# Altium schematic symbol library WE-RCIT.SchLib: 12 symbols
Pins are listed as number, name and electrical type; pins without a type are passive.

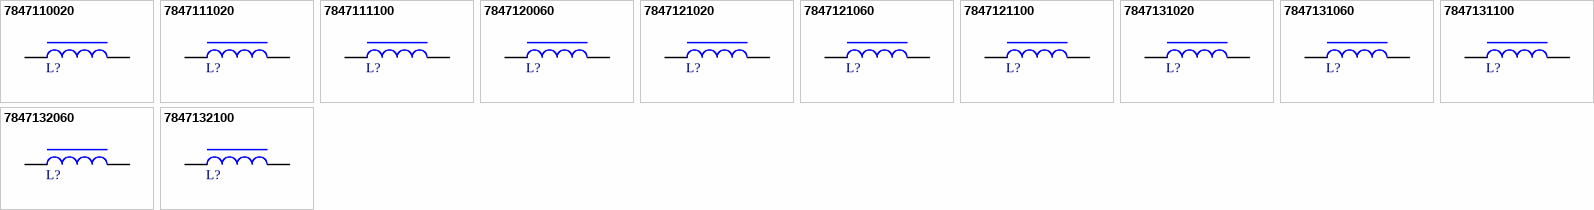
[diagram p0: symbols 7847110020 to 7847132100]

## 7847110020
designator L?, comment 2µH  (value not drawn)
WE-RCIT THT Rod Core Inductor, 2µH, 4A, 11mΩ; Manufacturer Part Number: 7847110020; Manufacturer: Wurth Elektronik; Saturation Current: 5A; Self Resonant Frequency: 290MHz; Category: Filter Chokes; Match Code: WE-RCIT; ComponentLink1Description: Website Link; ComponentLink1URL: https://www.we-online.com/redexpert/article/7847110020?ad; ComponentLink2Description: Datasheet Link; ComponentLink2URL: https://www.we-online.com/redexpert/spec/7847110020?ad; Mount: Through Hole; Operating Temperature Max: 150°C; Operating Temperature Min: -40°C; Packaging: Bulk; Length: 12.3mm; Width: 3.2mm; Height: 3.2mm; Diameter: 3.2mm; Automotive: Yes; DC Resistance: 11mΩ; Inductance: 2µH; Rated Current: 4A
footprint 7847110020
simulation model 7847110020_2u
pins: 1, 2

## 7847111020
designator L?, comment 2µH  (value not drawn)
WE-RCIT THT Rod Core Inductor, 2µH, 7A, 6.5mΩ; Manufacturer Part Number: 7847111020; Manufacturer: Wurth Elektronik; Saturation Current: 18A; Self Resonant Frequency: 180MHz; Category: Filter Chokes; Match Code: WE-RCIT; ComponentLink1Description: Website Link; ComponentLink1URL: https://www.we-online.com/redexpert/article/7847111020?ad; ComponentLink2Description: Datasheet Link; ComponentLink2URL: https://www.we-online.com/redexpert/spec/7847111020?ad; Mount: Through Hole; Operating Temperature Max: 150°C; Operating Temperature Min: -40°C; Packaging: Bulk; Length: 13.7mm; Width: 5.9mm; Height: 5.9mm; Diameter: 5.9mm; Automotive: Yes; DC Resistance: 6.5mΩ; Inductance: 2µH; Rated Current: 7A
footprint 7847111020
simulation model 7847111020_2u
pins: 1, 2

## 7847111100
designator L?, comment 10µH  (value not drawn)
WE-RCIT THT Rod Core Inductor, 10µH, 3A, 33mΩ; Manufacturer Part Number: 7847111100; Manufacturer: Wurth Elektronik; Saturation Current: 7A; Self Resonant Frequency: 90MHz; Category: Filter Chokes; Match Code: WE-RCIT; ComponentLink1Description: Website Link; ComponentLink1URL: https://www.we-online.com/redexpert/article/7847111100?ad; ComponentLink2Description: Datasheet Link; ComponentLink2URL: https://www.we-online.com/redexpert/spec/7847111100?ad; Mount: Through Hole; Operating Temperature Max: 150°C; Operating Temperature Min: -40°C; Packaging: Bulk; Length: 18.5mm; Width: 5.2mm; Height: 5.2mm; Diameter: 5.2mm; Automotive: Yes; DC Resistance: 33mΩ; Inductance: 10µH; Rated Current: 3A
footprint 7847111100
simulation model 7847111100_10u
pins: 1, 2

## 7847120060
designator L?, comment 6µH  (value not drawn)
WE-RCIT THT Rod Core Inductor, 6µH, 3.4A, 22mΩ; Manufacturer Part Number: 7847120060; Manufacturer: Wurth Elektronik; Saturation Current: 6.5A; Self Resonant Frequency: 140MHz; Category: Filter Chokes; Match Code: WE-RCIT; ComponentLink1Description: Website Link; ComponentLink1URL: https://www.we-online.com/redexpert/article/7847120060?ad; ComponentLink2Description: Datasheet Link; ComponentLink2URL: https://www.we-online.com/redexpert/spec/7847120060?ad; Mount: Through Hole; Operating Temperature Max: 150°C; Operating Temperature Min: -40°C; Packaging: Bulk; Length: 15.4mm; Width: 4.2mm; Height: 4.2mm; Diameter: 4.2mm; Automotive: Yes; DC Resistance: 22mΩ; Inductance: 6µH; Rated Current: 3.4A
footprint 7847120060
simulation model 7847120060_6u
pins: 1, 2

## 7847121020
designator L?, comment 2µH  (value not drawn)
WE-RCIT THT Rod Core Inductor, 2µH, 10A, 3.8mΩ; Manufacturer Part Number: 7847121020; Manufacturer: Wurth Elektronik; Saturation Current: 32A; Self Resonant Frequency: 150MHz; Category: Filter Chokes; Match Code: WE-RCIT; ComponentLink1Description: Website Link; ComponentLink1URL: https://www.we-online.com/redexpert/article/7847121020?ad; ComponentLink2Description: Datasheet Link; ComponentLink2URL: https://www.we-online.com/redexpert/spec/7847121020?ad; Mount: Through Hole; Operating Temperature Max: 150°C; Operating Temperature Min: -40°C; Packaging: Bulk; Length: 15.4mm; Width: 7.6mm; Height: 7.6mm; Diameter: 7.6mm; Automotive: Yes; DC Resistance: 3.8mΩ; Inductance: 2µH; Rated Current: 10A
footprint 7847121020
simulation model 7847121020_2u
pins: 1, 2

## 7847121060
designator L?, comment 6µH  (value not drawn)
WE-RCIT THT Rod Core Inductor, 6µH, 6.4A, 11.7mΩ; Manufacturer Part Number: 7847121060; Manufacturer: Wurth Elektronik; Saturation Current: 15A; Self Resonant Frequency: 95MHz; Category: Filter Chokes; Match Code: WE-RCIT; ComponentLink1Description: Website Link; ComponentLink1URL: https://www.we-online.com/redexpert/article/7847121060?ad; ComponentLink2Description: Datasheet Link; ComponentLink2URL: https://www.we-online.com/redexpert/spec/7847121060?ad; Mount: Through Hole; Operating Temperature Max: 150°C; Operating Temperature Min: -40°C; Packaging: Bulk; Length: 20.5mm; Width: 6.9mm; Height: 6.9mm; Diameter: 6.9mm; Automotive: Yes; DC Resistance: 11.7mΩ; Inductance: 6µH; Rated Current: 6.4A
footprint 7847121060
simulation model 7847121060_6u
pins: 1, 2

## 7847121100
designator L?, comment 10µH  (value not drawn)
WE-RCIT THT Rod Core Inductor, 10µH, 5.5A, 15.1mΩ; Manufacturer Part Number: 7847121100; Manufacturer: Wurth Elektronik; Saturation Current: 11.5A; Self Resonant Frequency: 80MHz; Category: Filter Chokes; Match Code: WE-RCIT; ComponentLink1Description: Website Link; ComponentLink1URL: https://www.we-online.com/redexpert/article/7847121100?ad; ComponentLink2Description: Datasheet Link; ComponentLink2URL: https://www.we-online.com/redexpert/spec/7847121100?ad; Mount: Through Hole; Operating Temperature Max: 150°C; Operating Temperature Min: -40°C; Packaging: Bulk; Length: 22.5mm; Width: 6.9mm; Height: 6.9mm; Diameter: 6.9mm; Automotive: Yes; DC Resistance: 15.1mΩ; Inductance: 10µH; Rated Current: 5.5A
footprint 7847121100
simulation model 7847121100_10u
pins: 1, 2

## 7847131020
designator L?, comment 2µH  (value not drawn)
WE-RCIT THT Rod Core Inductor, 2µH, 15A, 1.7mΩ; Manufacturer Part Number: 7847131020; Manufacturer: Wurth Elektronik; Saturation Current: 34A; Self Resonant Frequency: 110MHz; Category: Filter Chokes; Match Code: WE-RCIT; ComponentLink1Description: Website Link; ComponentLink1URL: https://www.we-online.com/redexpert/article/7847131020?ad; ComponentLink2Description: Datasheet Link; ComponentLink2URL: https://www.we-online.com/redexpert/spec/7847131020?ad; Mount: Through Hole; Operating Temperature Max: 150°C; Operating Temperature Min: -40°C; Packaging: Bulk; Length: 25.7mm; Width: 10mm; Height: 10mm; Diameter: 10mm; Automotive: Yes; DC Resistance: 1.7mΩ; Inductance: 2µH; Rated Current: 15A
footprint 7847131020
simulation model 7847131020_2u
pins: 1, 2

## 7847131060
designator L?, comment 6µH  (value not drawn)
WE-RCIT THT Rod Core Inductor, 6µH, 10A, 6.5mΩ; Manufacturer Part Number: 7847131060; Manufacturer: Wurth Elektronik; Saturation Current: 19A; Self Resonant Frequency: 80MHz; Category: Filter Chokes; Match Code: WE-RCIT; ComponentLink1Description: Website Link; ComponentLink1URL: https://www.we-online.com/redexpert/article/7847131060?ad; ComponentLink2Description: Datasheet Link; ComponentLink2URL: https://www.we-online.com/redexpert/spec/7847131060?ad; Mount: Through Hole; Operating Temperature Max: 150°C; Operating Temperature Min: -40°C; Packaging: Bulk; Length: 25.7mm; Width: 8.6mm; Height: 8.6mm; Diameter: 8.6mm; Automotive: Yes; DC Resistance: 6.5mΩ; Inductance: 6µH; Rated Current: 10A
footprint 7847131060
simulation model 7847131060_6u
pins: 1, 2

## 7847131100
designator L?, comment 10µH  (value not drawn)
WE-RCIT THT Rod Core Inductor, 10µH, 8A, 8.8mΩ; Manufacturer Part Number: 7847131100; Manufacturer: Wurth Elektronik; Saturation Current: 13A; Self Resonant Frequency: 50MHz; Category: Filter Chokes; Match Code: WE-RCIT; ComponentLink1Description: Website Link; ComponentLink1URL: https://www.we-online.com/redexpert/article/7847131100?ad; ComponentLink2Description: Datasheet Link; ComponentLink2URL: https://www.we-online.com/redexpert/spec/7847131100?ad; Mount: Through Hole; Operating Temperature Max: 150°C; Operating Temperature Min: -40°C; Packaging: Bulk; Length: 30.9mm; Width: 8.6mm; Height: 8.6mm; Diameter: 8.6mm; Automotive: Yes; DC Resistance: 8.8mΩ; Inductance: 10µH; Rated Current: 8A
footprint 7847131100
simulation model 7847131100_10u
pins: 1, 2

## 7847132060
designator L?, comment 6µH  (value not drawn)
WE-RCIT THT Rod Core Inductor, 6µH, 15A, 3.5mΩ; Manufacturer Part Number: 7847132060; Manufacturer: Wurth Elektronik; Saturation Current: 45A; Self Resonant Frequency: 55MHz; Category: Filter Chokes; Match Code: WE-RCIT; ComponentLink1Description: Website Link; ComponentLink1URL: https://www.we-online.com/redexpert/article/7847132060?ad; ComponentLink2Description: Datasheet Link; ComponentLink2URL: https://www.we-online.com/redexpert/spec/7847132060?ad; Mount: Through Hole; Operating Temperature Max: 150°C; Operating Temperature Min: -40°C; Packaging: Bulk; Length: 30mm; Width: 14mm; Height: 14mm; Diameter: 14mm; Automotive: Yes; DC Resistance: 3.5mΩ; Inductance: 6µH; Rated Current: 15A
footprint 7847132060
simulation model 7847132060_6u
pins: 1, 2

## 7847132100
designator L?, comment 10µH  (value not drawn)
WE-RCIT THT Rod Core Inductor, 10µH, 15A, 5.7mΩ; Manufacturer Part Number: 7847132100; Manufacturer: Wurth Elektronik; Saturation Current: 56A; Self Resonant Frequency: 40MHz; Category: Filter Chokes; Match Code: WE-RCIT; ComponentLink1Description: Website Link; ComponentLink1URL: https://www.we-online.com/redexpert/article/7847132100?ad; ComponentLink2Description: Datasheet Link; ComponentLink2URL: https://www.we-online.com/redexpert/spec/7847132100?ad; Mount: Through Hole; Operating Temperature Max: 150°C; Operating Temperature Min: -40°C; Packaging: Bulk; Length: 30.8mm; Width: 16mm; Height: 16mm; Diameter: 16mm; Automotive: Yes; DC Resistance: 5.7mΩ; Inductance: 10µH; Rated Current: 15A
footprint 7847132100
simulation model 7847132100_10u
pins: 1, 2